# EAGLE library part CY7C6013A-100 (library Lysenko_Eagle_Lib)
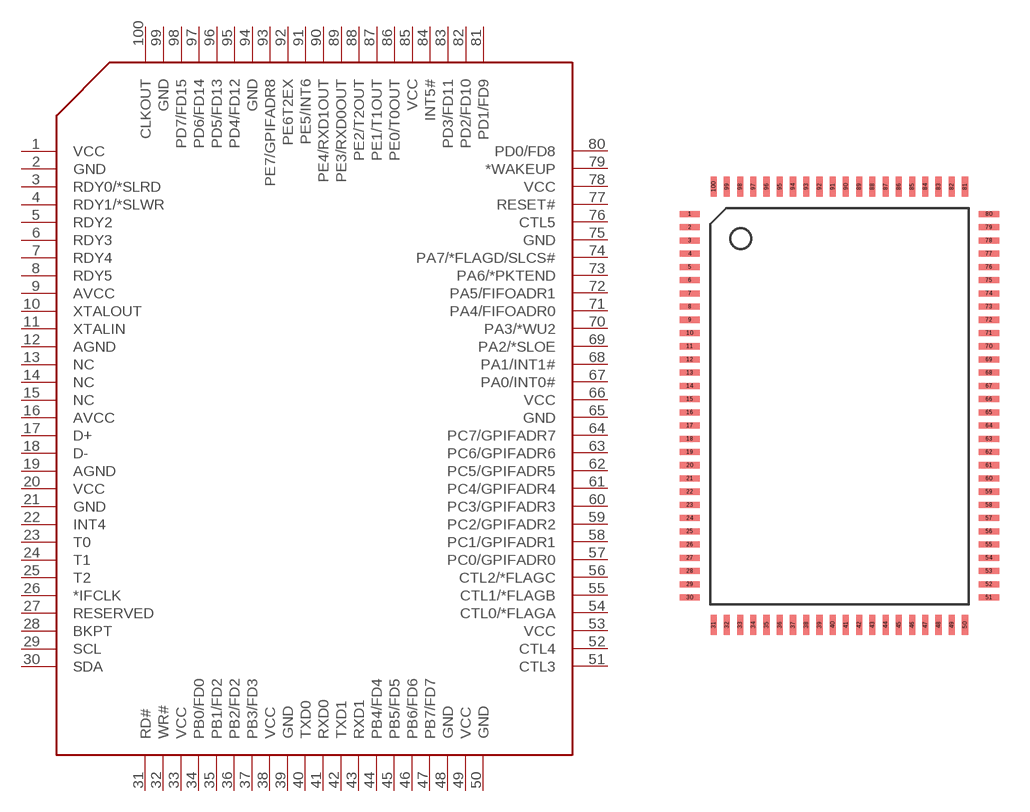
[diagram p22: symbol with the pads of TQFP-100; footprint TQFP-100]

Designator prefix -

## CY7C6013A-100  [TQFP-100]
1  VCC  out
2  GND  out
3  RDY0/*SLRD  out
4  RDY1/*SLWR  out
5  RDY2  out
6  RDY3  out
7  RDY4  out
8  RDY5  out
9  AVCC  out
10  XTALOUT  out
11  XTALIN  out
12  AGND  out
13  NC  out
14  NC  out
15  NC  out
16  AVCC  out
17  D+  out
18  D-  out
19  AGND  out
20  VCC  out
21  GND  out
22  INT4  out
23  T0  out
24  T1  out
25  T2  out
26  *IFCLK  out
27  RESERVED  out
28  BKPT  out
29  SCL  out
30  SDA  out
31  RD#  out
32  WR#  out
33  VCC  out
34  PB0/FD0  out
35  PB1/FD2  out
36  PB2/FD2  out
37  PB3/FD3  out
38  VCC  out
39  GND  out
40  TXD0  out
41  RXD0  out
42  TXD1  out
43  RXD1  out
44  PB4/FD4  out
45  PB5/FD5  out
46  PB6/FD6  out
47  PB7/FD7  out
48  GND  out
49  VCC  out
50  GND  out
51  CTL3  out
52  CTL4  out
53  VCC  out
54  CTL0/*FLAGA  out
55  CTL1/*FLAGB  out
56  CTL2/*FLAGC  out
57  PC0/GPIFADR0  out
58  PC1/GPIFADR1  out
59  PC2/GPIFADR2  out
60  PC3/GPIFADR3  out
61  PC4/GPIFADR4  out
62  PC5/GPIFADR5  out
63  PC6/GPIFADR6  out
64  PC7/GPIFADR7  out
65  GND  out
66  VCC  out
67  PA0/INT0#  out
68  PA1/INT1#  out
69  PA2/*SLOE  out
70  PA3/*WU2  out
71  PA4/FIFOADR0  out
72  PA5/FIFOADR1  out
73  PA6/*PKTEND  out
74  PA7/*FLAGD/SLCS#  out
75  GND  out
76  CTL5  out
77  RESET#  out
78  VCC  out
79  *WAKEUP  out
80  PD0/FD8  out
81  PD1/FD9  out
82  PD2/FD10  out
83  PD3/FD11  out
84  INT5#  out
85  VCC  out
86  PE0/T0OUT  out
87  PE1/T1OUT  out
88  PE2/T2OUT  out
89  PE3/RXD0OUT  out
90  PE4/RXD1OUT  out
91  PE5/INT6  out
92  PE6T2EX  out
93  PE7/GPIFADR8  out
94  GND  out
95  PD4/FD12  out
96  PD5/FD13  out
97  PD6/FD14  out
98  PD7/FD15  out
99  GND  out
100  CLKOUT  out

## Footprint TQFP-100 (pad centres in mm)
smd 1 x 0.3: 1 0,19.7; 2 0,19.05; 3 0,18.4; 4 0,17.75; 5 0,17.1; 6 0,16.45; 7 0,15.8; 8 0,15.15; 9 0,14.5; 10 0,13.85; 11 0,13.2; 12 0,12.55; 13 0,11.9; 14 0,11.25; 15 0,10.6; 16 0,9.95; 17 0,9.3; 18 0,8.65; 19 0,8; 20 0,7.35; 21 0,6.7; 22 0,6.05; 23 0,5.4; 24 0,4.75; 25 0,4.1; 26 0,3.45; 27 0,2.8; 28 0,2.15; 29 0,1.5; 30 0,0.85; 51 14.7,0.85; 52 14.7,1.5; 53 14.7,2.15; 54 14.7,2.8; 55 14.7,3.45; 56 14.7,4.1; 57 14.7,4.75; 58 14.7,5.4; 59 14.7,6.05; 60 14.7,6.7; 61 14.7,7.35; 62 14.7,8; 63 14.7,8.65; 64 14.7,9.3; 65 14.7,9.95; 66 14.7,10.6; 67 14.7,11.25; 68 14.7,11.9; 69 14.7,12.55; 70 14.7,13.2; 71 14.7,13.85; 72 14.7,14.5; 73 14.7,15.15; 74 14.7,15.8; 75 14.7,16.45; 76 14.7,17.1; 77 14.7,17.75; 78 14.7,18.4; 79 14.7,19.05; 80 14.7,19.7
smd 0.3 x 1: 31 1.175,-0.5; 32 1.825,-0.5; 33 2.475,-0.5; 34 3.125,-0.5; 35 3.775,-0.5; 36 4.425,-0.5; 37 5.075,-0.5; 38 5.725,-0.5; 39 6.375,-0.5; 40 7.025,-0.5; 41 7.675,-0.5; 42 8.325,-0.5; 43 8.975,-0.5; 44 9.625,-0.5; 45 10.275,-0.5; 46 10.925,-0.5; 47 11.575,-0.5; 48 12.225,-0.5; 49 12.875,-0.5; 50 13.525,-0.5; 81 13.525,21.05; 82 12.875,21.05; 83 12.225,21.05; 84 11.575,21.05; 85 10.925,21.05; 86 10.275,21.05; 87 9.625,21.05; 88 8.975,21.05; 89 8.325,21.05; 90 7.675,21.05; 91 7.025,21.05; 92 6.375,21.05; 93 5.725,21.05; 94 5.075,21.05; 95 4.425,21.05; 96 3.775,21.05; 97 3.125,21.05; 98 2.475,21.05; 99 1.825,21.05; 100 1.175,21.05